# Altium footprint library PcbLib1.PcbLib: 32 footprints (part 2 of 2)
Each footprint in its own frame and in the unit in brackets; x right, y up, seen from the top. Pads: shape width x height; smd on the part's side, far side on the other; paste and mask are expansions set on the pad; w line width, h text height; cw(c..) or ccw(c..) is an arc to the next point about the centre after c.
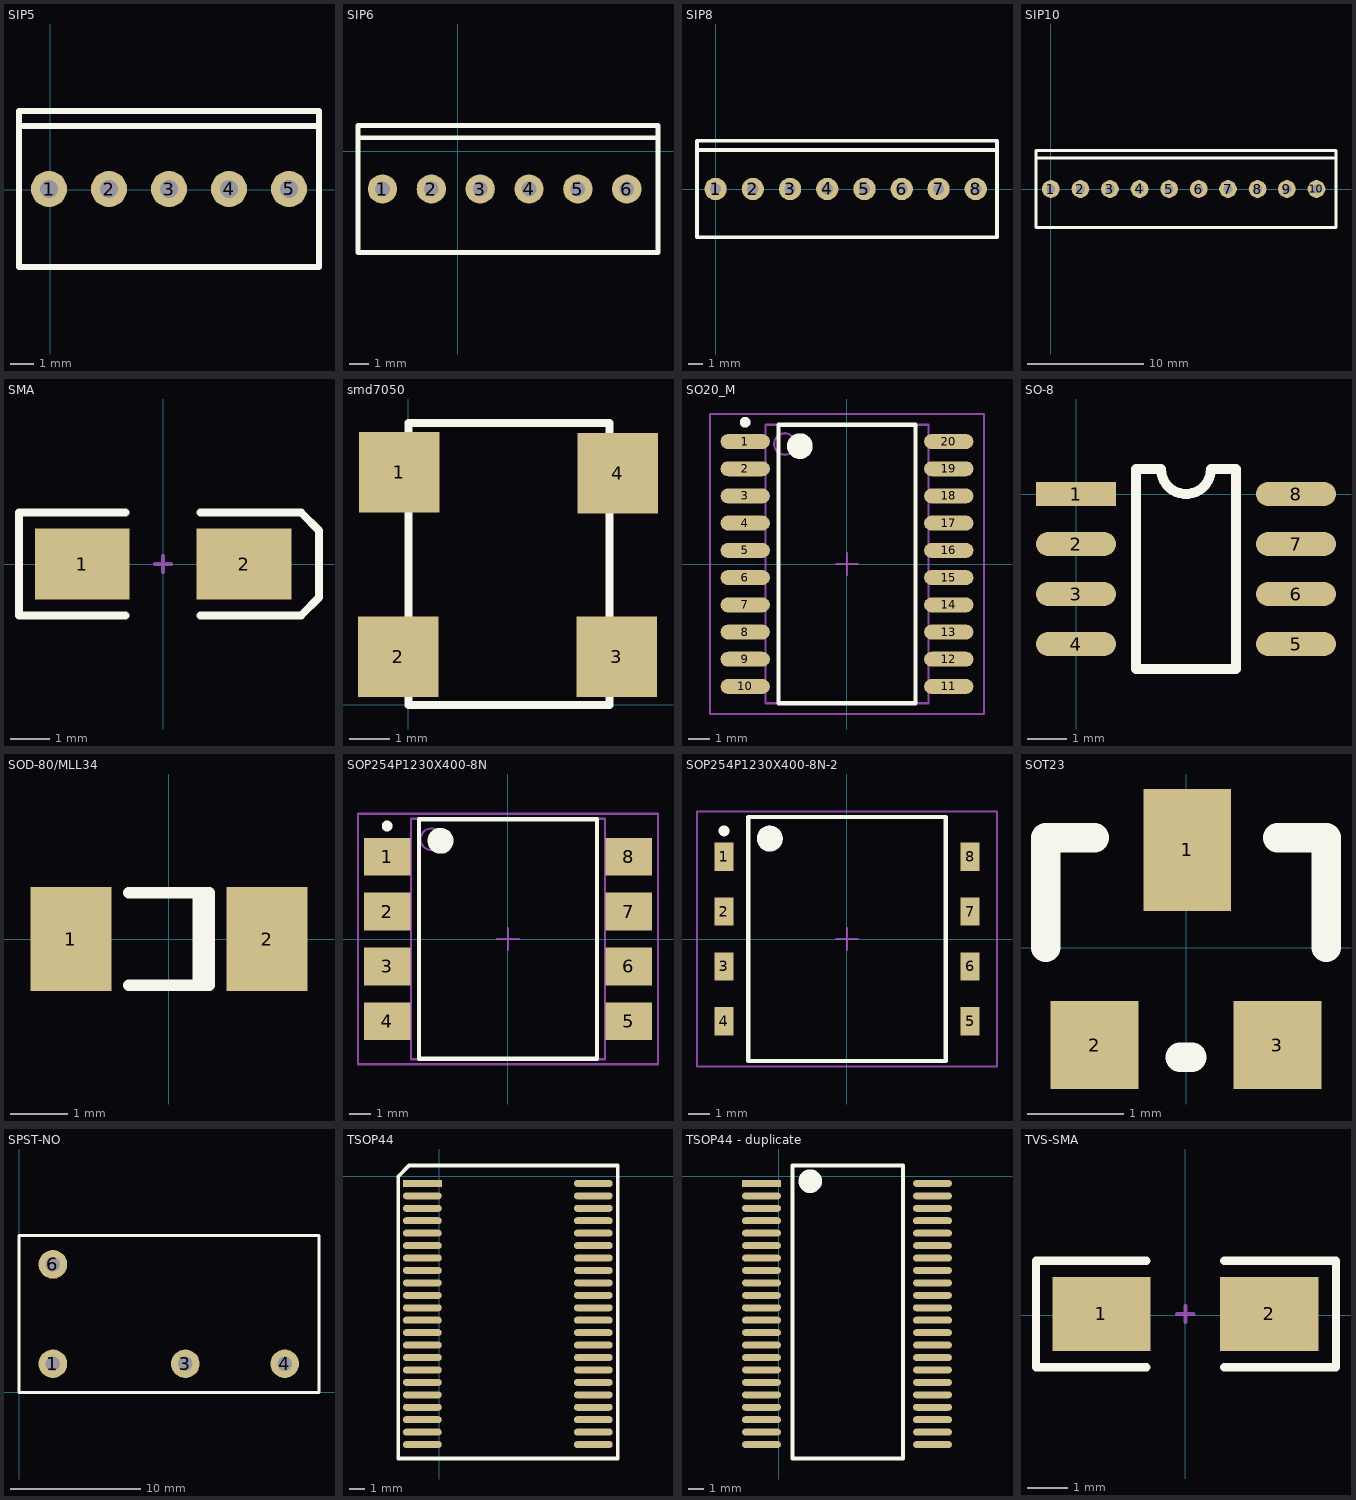
[diagram p1: the footprints below, top view; thin cyan lines are the x and y axes]

## SIP5 [mil]
pads (5):
  round 60 hole 30: 1(-2,1) 2(98,1) 3(198,1) 4(298,1) 5(398,1)
Top Overlay:
  lines w10: -52,106 448,106 ; -52,-129 448,-129 448,131 -52,131 -52,-129

## SIP6 [mil]
pads (6):
  round 60 hole 30: 1(-154,-77) 2(-54,-77) 3(46,-77) 4(146,-77) 5(246,-77) 6(346,-77)
Top Overlay:
  lines w10: -204,28 410,28 ; -204,-207 -204,53 410,53 410,-207 -204,-207

## SIP8 [mil]
pads (8):
  round 60 hole 30: 1(0,0) 2(100,0) 3(200,0) 4(300,0) 5(400,0) 6(500,0) 7(599,0) 8(699,0)
Top Overlay:
  lines w10: -50,105 756,105 ; -50,-130 756,-130 756,130 -50,130 -50,-130

## SIP10 [mil]
pads (10):
  round 60 hole 30: 1(0,0) 2(100,0) 3(200,0) 4(300,0) 5(400,0) 6(500,0) 7(599,0) 8(699,0) 9(798,0) 10(898,0)
Top Overlay:
  lines w10: -50,105 964,105 ; -50,-130 -50,130 964,130 964,-130 -50,-130

## SMA [mm] "DO-214-AC/SMA; 2 C-Bend Leads; Body 5 x 2.7 mm, inc. leads (LxW)"
height 2.44
pads (2):
  rect 2.4x1.8 smd: 1(-2.05,0) 2(2.05,0)
Top Overlay:
  lines w0.2: -0.95,-1.3 -3.65,-1.3 -3.65,1.3 -0.95,1.3 ; 0.95,-1.3 3.5,-1.3 3.95,-0.85 3.95,0.85 3.5,1.3 0.95,1.3
Mechanical 1:
  lines w0.1: -0.2,0 0.2,0 ; 0,-0.2 0,0.2

## smd7050 [mm]
pads (4):
  rect 2x2 smd: 1(-0.229,5.791) 2(-0.254,1.194) 3(5.182,1.194) 4(5.207,5.766)
Top Overlay:
  lines w0.2: 0,7 0,0 5,0 ; 0,7.01 5,7.01 ; 5.004,0 5.004,7

## SO20_M [mm] "20-Pin Small Outline Package (SO20), IPC Low Density"
height 2.65
pads (20):
  oval 2.3x0.7 smd: 1(-4.75,5.715) 2(-4.75,4.445) 3(-4.75,3.175) 4(-4.75,1.905) 5(-4.75,0.635) 6(-4.75,-0.635) 7(-4.75,-1.905) 8(-4.75,-3.175) 9(-4.75,-4.445) 10(-4.75,-5.715) 11(4.75,-5.715) 12(4.75,-4.445) 13(4.75,-3.175) 14(4.75,-1.905) 15(4.75,-0.635) 16(4.75,0.635) 17(4.75,1.905) 18(4.75,3.175) 19(4.75,4.445) 20(4.75,5.715)
Top Overlay:
  circle w0.25: c-4.75,6.615 r0.125
  circle w0.6: c-2.2,5.5 r0.3
  lines w0.2: -3.2,-6.5 -3.2,6.5 3.2,6.5 3.2,-6.5 -3.2,-6.5
Mechanical 13:
  circle w0.1: c-2.9,5.6 r0.5
  lines w0.1: -3.8,-6.5 -3.8,6.5 3.8,6.5 3.8,-6.5 -3.8,-6.5
Mechanical 15:
  lines w0.1: -0.5,0 0.5,0 ; 0,-0.5 0,0.5 ; -6.4,-7 -6.4,7 6.4,7 6.4,-7 -6.4,-7
3D body: height 2.65, standoff 0, extent -3.8,-6.5 3.8,6.5

## SO-8 [mil]
pads (8):
  rect 80x24 smd: 1(0,0)
  oval 80x24 smd: 2(0,-50) 3(0,-100) 4(0,-150) 5(220,-150) 6(220,-100) 7(220,-50) 8(220,0)
Top Overlay:
  lines w10: 60,-175 160,-175 160,25 135,25 cw(c110,25) 85,25 60,25 60,-175

## SOD-80/MLL34 [mm] "Metal Electrode Face (MELF) Diode; Body 3.5 x 1.7 mm (LxDia)"
height 1.7
pads (2):
  rect 1.4x1.8 smd: 1(-1.7,0) 2(1.7,0)
Top Overlay:
  lines w0.2: -0.7,-0.8 0.7,-0.8 0.7,0.8 -0.7,0.8 ; 0.51,-0.8 0.51,0.8

## SOP254P1230X400-8N [mm] "SOP, 8-Leads, Body 11.1x9.0mm (max), Pitch 2.54mm, IPC Medium Density"
height 4
pads (8):
  rect 2.15x1.75 smd: 1(-5.6,3.81) 2(-5.6,1.27) 3(-5.6,-1.27) 4(-5.6,-3.81) 5(5.6,-3.81) 6(5.6,-1.27) 7(5.6,1.27) 8(5.6,3.81)
Top Overlay:
  circle w0.25: c-5.6,5.235 r0.125
  circle w0.6: c-3.125,4.55 r0.3
  lines w0.2: -4.125,-5.55 -4.125,5.55 4.125,5.55 4.125,-5.55 -4.125,-5.55
Mechanical 13:
  circle w0.1: c-3.55,4.625 r0.5
  lines w0.1: -4.5,-5.575 -4.5,5.575 4.5,5.575 4.5,-5.575 -4.5,-5.575
Mechanical 15:
  lines w0.1: -0.5,0 0.5,0 ; 0,-0.5 0,0.5 ; -6.95,-5.8 -6.95,5.8 6.95,5.8 6.95,-5.8 -6.95,-5.8
3D body: height 4, standoff 0.25, extent -4.5,-5.575 4.5,5.575

## SOP254P1230X400-8N-2 [mm] "SOP, 8-Leads, Body 11.3x9.1mm (max), Pitch 2.54mm, IPC Medium Density"
height 4
pads (8):
  rect 0.9x1.3 smd: 1(-5.7,3.81) 2(-5.7,1.27) 3(-5.7,-1.27) 4(-5.7,-3.81) 5(5.7,-3.81) 6(5.7,-1.27) 7(5.7,1.27) 8(5.7,3.81)
Top Overlay:
  circle w0.25: c-5.7,5.01 r0.125
  circle w0.6: c-3.575,4.65 r0.3
  lines w0.2: -4.575,-5.65 -4.575,5.65 4.575,5.65 4.575,-5.65 -4.575,-5.65
Mechanical 13:
  circle w0.1: c-3.625,4.7 r0.5
  lines w0.1: -4.575,-5.65 -4.575,5.65 4.575,5.65 4.575,-5.65 -4.575,-5.65
Mechanical 15:
  lines w0.1: -0.5,0 0.5,0 ; 0,-0.5 0,0.5 ; -6.95,-5.9 -6.95,5.9 6.95,5.9 6.95,-5.9 -6.95,-5.9
3D body: height 4, standoff 0.25, extent -4.575,-5.65 4.575,5.65

## SOT23 [mil]
pads (3):
  rect 36x50 smd: 1(0.5,40)
  rect 36x36 smd: 2(-37.5,-40) 3(37.5,-40)
Top Overlay:
  lines w12: -57.5,0 -57.5,45 -37.5,45 ; -2.5,-45 2.5,-45 ; 37.5,45 57.5,45 57.5,0

## SPST-NO [mm]
pads (4):
  round 2.2 hole 1.1: 1(2.6,2.2) 3(12.76,2.2) 4(20.38,2.2) 6(2.6,9.82)
Top Overlay:
  lines w0.254: 0,0 0,12.032 23.012,12.032 23.012,0 0,0

## TSOP44 [mm]
pads (44):
  rect 2.5x0.45 smd: 1(-1.1,-0.45)
  oval 2.5x0.45 smd: 2(-1.1,-1.25) 3(-1.1,-2.05) 4(-1.1,-2.85) 5(-1.1,-3.65) 6(-1.1,-4.45) 7(-1.1,-5.25) 8(-1.1,-6.05) 9(-1.1,-6.85) 10(-1.1,-7.65) 11(-1.1,-8.45) 12(-1.1,-9.25) 13(-1.1,-10.05) 14(-1.1,-10.85) 15(-1.1,-11.65) 16(-1.1,-12.45) 17(-1.1,-13.25) 18(-1.1,-14.05) 19(-1.1,-14.85) 20(-1.1,-15.65) 21(-1.1,-16.45) 22(-1.1,-17.25) 23(9.9,-17.25) 24(9.9,-16.45) 25(9.9,-15.65) 26(9.9,-14.85) 27(9.9,-14.05) 28(9.9,-13.25) 29(9.9,-12.45) 30(9.9,-11.65) 31(9.9,-10.85) 32(9.9,-10.05) 33(9.9,-9.25) 34(9.9,-8.45) 35(9.9,-7.65) 36(9.9,-6.85) 37(9.9,-6.05) 38(9.9,-5.25) 39(9.9,-4.45) 40(9.9,-3.65) 41(9.9,-2.85) 42(9.9,-2.05) 43(9.9,-1.25) 44(9.9,-0.45)
Top Overlay:
  lines w0.254: 11.473,0.66 11.473,-18.136 -2.649,-18.136 -2.649,0.007 -1.964,0.693 11.473,0.693

## TSOP44 - duplicate [mm]
pads (44):
  rect 2.5x0.45 smd: 1(-1.1,-0.45)
  oval 2.5x0.45 smd: 2(-1.1,-1.25) 3(-1.1,-2.05) 4(-1.1,-2.85) 5(-1.1,-3.65) 6(-1.1,-4.45) 7(-1.1,-5.25) 8(-1.1,-6.05) 9(-1.1,-6.85) 10(-1.1,-7.65) 11(-1.1,-8.45) 12(-1.1,-9.25) 13(-1.1,-10.05) 14(-1.1,-10.85) 15(-1.1,-11.65) 16(-1.1,-12.45) 17(-1.1,-13.25) 18(-1.1,-14.05) 19(-1.1,-14.85) 20(-1.1,-15.65) 21(-1.1,-16.45) 22(-1.1,-17.25) 23(9.9,-17.25) 24(9.9,-16.45) 25(9.9,-15.65) 26(9.9,-14.85) 27(9.9,-14.05) 28(9.9,-13.25) 29(9.9,-12.45) 30(9.9,-11.65) 31(9.9,-10.85) 32(9.9,-10.05) 33(9.9,-9.25) 34(9.9,-8.45) 35(9.9,-7.65) 36(9.9,-6.85) 37(9.9,-6.05) 38(9.9,-5.25) 39(9.9,-4.45) 40(9.9,-3.65) 41(9.9,-2.85) 42(9.9,-2.05) 43(9.9,-1.25) 44(9.9,-0.45)
Top Overlay:
  circle w1: c2.032,-0.305 r0.259
  lines w0.254: 0.889,-18.136 8.001,-18.136 8.001,0.693 0.889,0.693 0.889,-18.136

## TVS-SMA [mm]
pads (2):
  rect 2.4x1.8 smd: 1(-2.05,0.025) 2(2.05,0.025)
Top Overlay:
  lines w0.2: -0.95,-1.275 -3.65,-1.275 -3.65,1.325 -0.95,1.325 ; 0.95,-1.275 3.683,-1.275 3.683,1.295 ; 0.95,1.325 3.683,1.325
Mechanical 1:
  lines w0.1: -0.2,0.025 0.2,0.025 ; 0,-0.175 0,0.225